# Altium schematic symbol library 865250340002.SchLib: 1 symbol
Pins are listed as number, name and electrical type; pins without a type are passive.

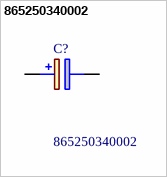
[diagram p0: symbol 865250340002]

## 865250340002
designator C?
Wurth Elektronik 4.7F 16V dc Aluminium Electrolytic Capacitor, Surface Mount 5.5 (Dia.) x 3.85mm +85C 5.5mm 1mm; Manufacturer_Name: Wurth Elektronik; Manufacturer_Part_Number: 865250340002; Mouser Part Number: 710-865250340002; Mouser Price/Stock: https://www.mouser.co.uk/ProductDetail/Wurth-Elektronik/865250340002?qs=0KOYDY2FL298qwYqQV5RgA%3D%3D; Arrow Part Number: *; Arrow Price/Stock: *; Datasheet Link: https://componentsearchengine.com/Datasheets/2/865250340002.pdf; Geometry.Height: 5.5mm
footprint CAPAE430X550N
pins: 1 +, 2 -